# Altium integrated library National Semiconductor Analog.IntLib: 165 symbols (part 1 of 5)
Pins are listed as number, name and electrical type; pins without a type are passive.

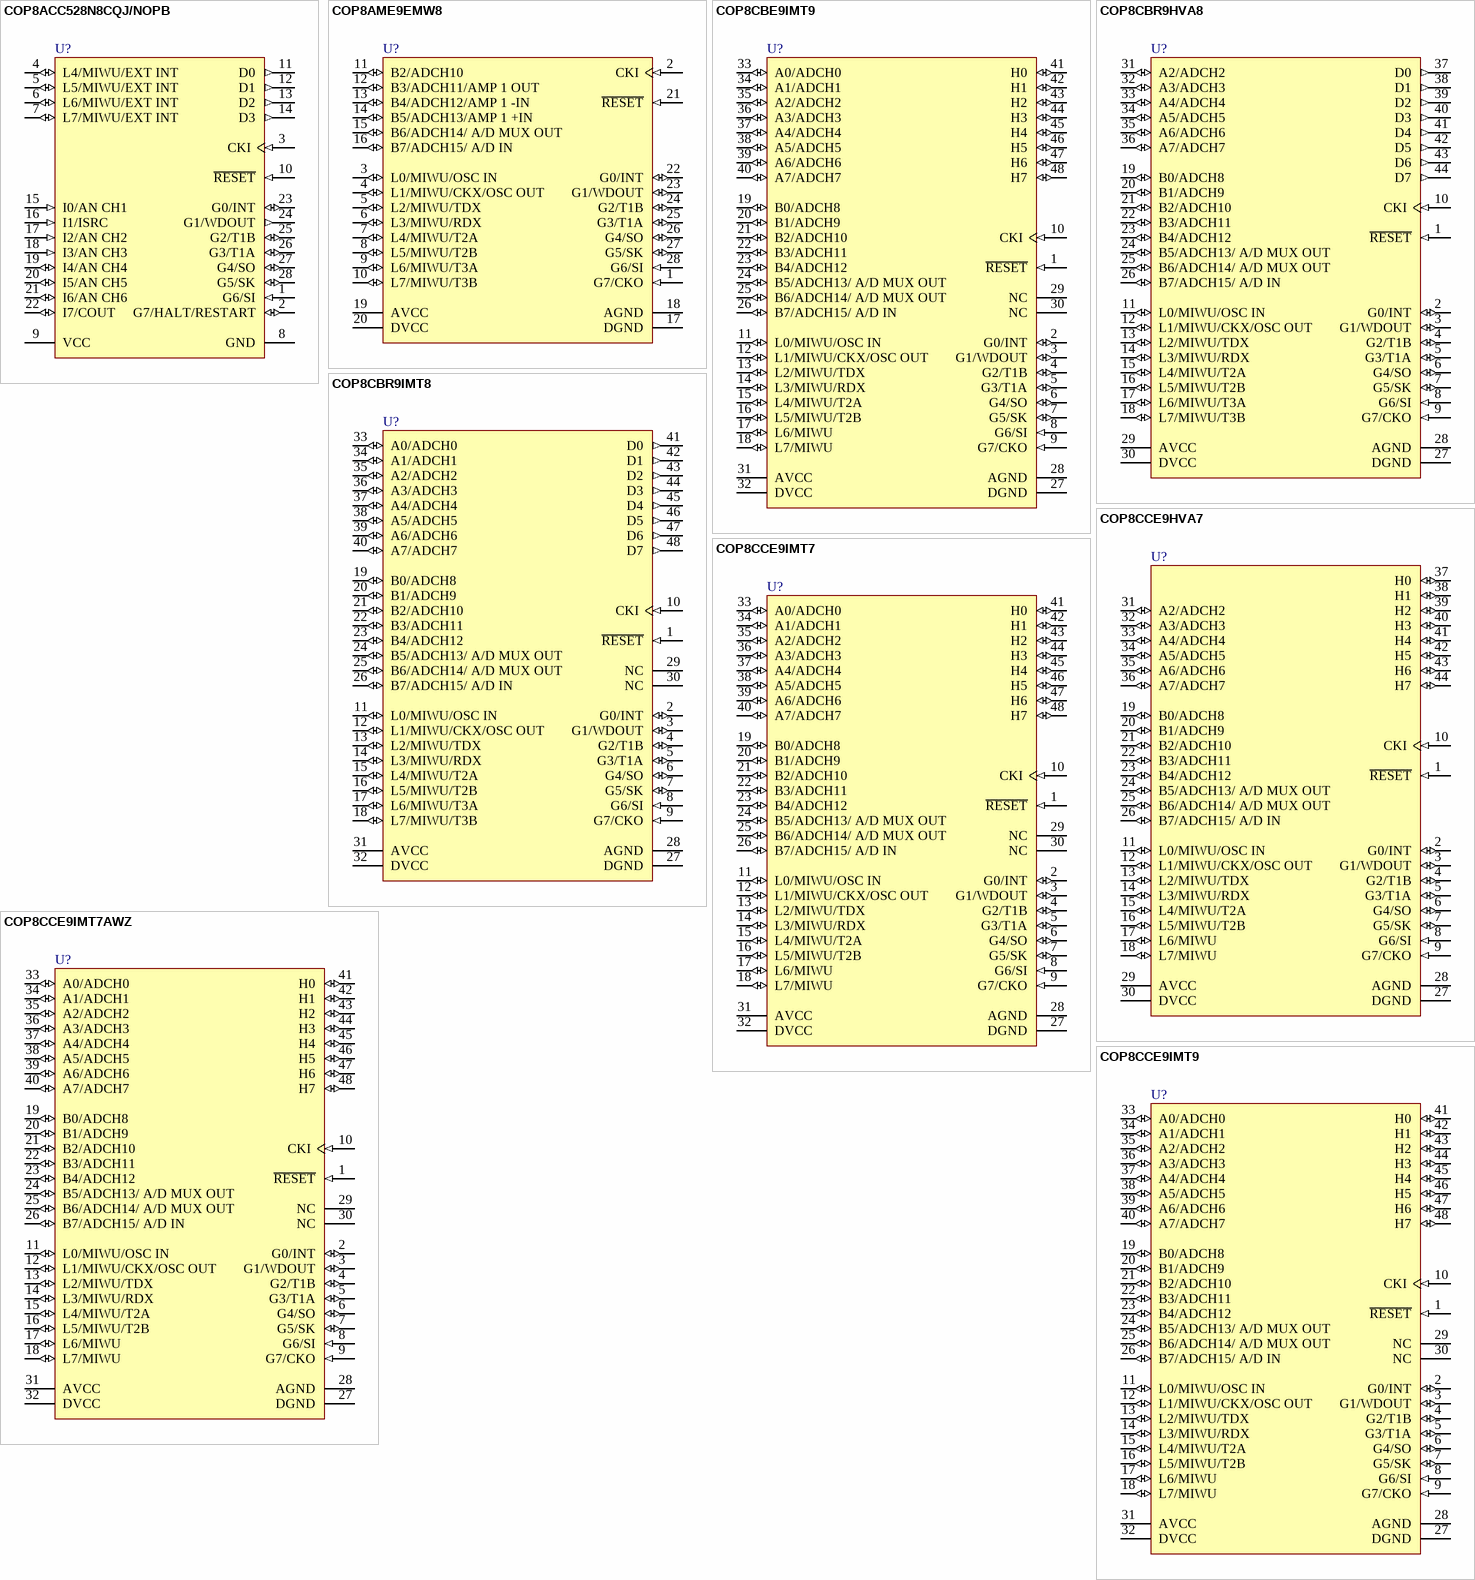
[diagram p0: symbols COP8ACC528N8CQJ/NOPB to COP8CCE9IMT9]

## COP8ACC528N8CQJ/NOPB
designator U?
8-Bit CMOS ROM Based Microcontrollers with 4k Memory and High Resolution A/D, 28 pin MDIP; PartNumber: COP8ACC528N8CQJ/NOPB; Manufacturer: National Semiconductor; PackageTopMarking: NSUZXYYTTE#*COP8ACC5*28N8CQJ; PowerWise: N; CompType: Analog IC; High-Reliability: Y; DatasheetVersion: Jul-2000; PackageVersion: revB, Aug-1993; PackageReference: NA28E; PackageDescription: Molded Dip, 28 Lead, .600 Centers, Substractor Package; RoHS: Y; PinCount: 28; ComponentLink1Description: Manufacturer URL; ComponentLink1URL: http://www.national.com/; ComponentLink2Description: COP8ACC5 Datasheet; ComponentLink2URL: http://www.national.com/ds/CO/COP8ACC5.pdf; ComponentLink3Description: COP8ACC5 Web Page; ComponentLink3URL: http://www.national.com/pf/CO/COP8ACC5.html; ComponentLink4Description: NA28E Package Page; ComponentLink4URL: http://www.national.com/packaging/folders/na28e.html
footprint NA28E (DIP, 28-Leads, Row Spacing 15.24mm, Pitch 2.54mm, Body 36.83x13.72mm)
pins: 1 G6/SI (in), 2 G7/HALT/RESTART (io), 3 CKI (in), 4 L4/MIWU/EXT INT (io), 5 L5/MIWU/EXT INT (io), 6 L6/MIWU/EXT INT (io), 7 L7/MIWU/EXT INT (io), 8 GND (power), 9 VCC (power), 10 ~{RESET} (in), 11 D0 (out), 12 D1 (out), 13 D2 (out), 14 D3 (out), 15 I0/AN CH1 (in), 16 I1/ISRC (in), 17 I2/AN CH2 (in), 18 I3/AN CH3 (in), 19 I4/AN CH4 (io), 20 I5/AN CH5 (io), 21 I6/AN CH6 (io), 22 I7/COUT (io), 23 G0/INT (io), 24 G1/WDOUT (out), 25 G2/T1B (io), 26 G3/T1A (io), 27 G4/SO (io), 28 G5/SK (io)

## COP8AME9EMW8
designator U?
8-Bit CMOS Flash Microcontroller with 8k Memory, Dual Op Amps, Virtual EEPROM, Temperature Sensor, 10-Bit A/D and 4.17 to 4.5V Brownout Reset, 28 pin SOIC WIDE; PartNumber: COP8AME9EMW8; Manufacturer: National Semiconductor; PackageTopMarking: NS2ZXYTTE#*COP8AME9EMW8; PowerWise: N; CompType: Analog IC; High-Reliability: Y; DatasheetVersion: Feb-2004; PackageVersion: revB, Nov-1997; PackageReference: M28B; PackageDescription: Molded Package, S.O., .300in Wide, 28 Lead; RoHS: N; PinCount: 28; ComponentLink1Description: Manufacturer URL; ComponentLink1URL: http://www.national.com/; ComponentLink2Description: COP8AME9 Datasheet; ComponentLink2URL: http://www.national.com/ds/CO/COP8AME9.pdf; ComponentLink3Description: COP8AME9 Web Page; ComponentLink3URL: http://www.national.com/pf/CO/COP8AME9.html; ComponentLink4Description: M28B Package Page; ComponentLink4URL: http://www.national.com/packaging/folders/m28b.html
footprint M28B_N (SOIC, 28-Leads, Body 17.9x7.5mm, Pitch 1.27mm, IPC Medium Density)
footprint M28B_L (SOIC, 28-Leads, Body 17.9x7.5mm, Pitch 1.27mm, IPC High Density)
footprint M28B_M (SOIC, 28-Leads, Body 17.9x7.5mm, Pitch 1.27mm, IPC Low Density)
pins: 1 G7/CKO (in), 2 CKI (in), 3 L0/MIWU/OSC IN (io), 4 L1/MIWU/CKX/OSC OUT (io), 5 L2/MIWU/TDX (io), 6 L3/MIWU/RDX (io), 7 L4/MIWU/T2A (io), 8 L5/MIWU/T2B (io), 9 L6/MIWU/T3A (io), 10 L7/MIWU/T3B (io), 11 B2/ADCH10 (io), 12 B3/ADCH11/AMP 1 OUT (io), 13 B4/ADCH12/AMP 1 -IN (io), 14 B5/ADCH13/AMP 1 +IN (io), 15 B6/ADCH14/ A/D MUX OUT (io), 16 B7/ADCH15/ A/D IN (io), 17 DGND (power), 18 AGND (power), 19 AVCC (power), 20 DVCC (power), 21 ~{RESET} (in), 22 G0/INT (io), 23 G1/WDOUT (io), 24 G2/T1B (io), 25 G3/T1A (io), 26 G4/SO (io), 27 G5/SK (io), 28 G6/SI (in)

## COP8CBE9IMT9
designator U?
8-Bit CMOS Flash Microcontroller with 8k Memory, Virtual EEPROM, 10-Bit A/D and Brownout Reset, 48-pin TSSOP; PartNumber: COP8CBE9IMT9; Manufacturer: National Semiconductor; PackageTopMarking: NS2ZXYTTE#*COP8CBE9IMT9; PowerWise: N; CompType: Analog IC; High-Reliability: Y; DatasheetVersion: Jun-2004; PackageVersion: revE, Apr-2003; PackageReference: MTD48; PackageDescription: Molded TSSOP, Jedec, 12.5 x 6.1 x 0.9mm Body, 48 Lead, 0.50mm Pitch; RoHS: N; PinCount: 48; Code_JEDEC: MO-153-ED; ComponentLink1Description: Manufacturer URL; ComponentLink1URL: http://www.national.com/; ComponentLink2Description: COP8CBE9 Datasheet; ComponentLink2URL: http://www.national.com/ds/CO/COP8CBE9.pdf; ComponentLink3Description: COP8CBE9 Web Page; ComponentLink3URL: http://www.national.com/pf/CO/COP8CBE9.html; ComponentLink4Description: MTD48 Package Page; ComponentLink4URL: http://www.national.com/packaging/folders/mtd48.html
footprint MTD48_N (TSSOP, 48-Leads, Body 12.5x6.1mm, Pitch 0.5mm, IPC Medium Density)
footprint MTD48_L (TSSOP, 48-Leads, Body 12.5x6.1mm, Pitch 0.5mm, IPC High Density)
footprint MTD48_M (TSSOP, 48-Leads, Body 12.5x6.1mm, Pitch 0.5mm, IPC Low Density)
pins: 1 ~{RESET} (in), 2 G0/INT (io), 3 G1/WDOUT (io), 4 G2/T1B (io), 5 G3/T1A (io), 6 G4/SO (io), 7 G5/SK (io), 8 G6/SI (in), 9 G7/CKO (in), 10 CKI (in), 11 L0/MIWU/OSC IN (io), 12 L1/MIWU/CKX/OSC OUT (io), 13 L2/MIWU/TDX (io), 14 L3/MIWU/RDX (io), 15 L4/MIWU/T2A (io), 16 L5/MIWU/T2B (io), 17 L6/MIWU (io), 18 L7/MIWU (io), 19 B0/ADCH8 (io), 20 B1/ADCH9 (io), 21 B2/ADCH10 (io), 22 B3/ADCH11 (io), 23 B4/ADCH12 (io), 24 B5/ADCH13/ A/D MUX OUT (io), 25 B6/ADCH14/ A/D MUX OUT (io), 26 B7/ADCH15/ A/D IN (io), 27 DGND (power), 28 AGND (power), 29 NC, 30 NC, 31 AVCC (power), 32 DVCC (power), 33 A0/ADCH0 (io), 34 A1/ADCH1 (io), 35 A2/ADCH2 (io), 36 A3/ADCH3 (io), 37 A4/ADCH4 (io), 38 A5/ADCH5 (io), 39 A6/ADCH6 (io), 40 A7/ADCH7 (io), 41 H0 (io), 42 H1 (io), 43 H2 (io), 44 H3 (io), 45 H4 (io), 46 H5 (io), 47 H6 (io), 48 H7 (io)

## COP8CBR9HVA8
designator U?
8-Bit CMOS Flash Microcontroller with 32k Memory, Virtual EEPROM, 10-Bit A/D and 2.7V to 2.9V Brownout, 44-pin PLCC; PartNumber: COP8CBR9HVA8; Manufacturer: National Semiconductor; PackageTopMarking: NS2ZXYYTTE#*COP8CBR9HVA8; PowerWise: N; CompType: Analog IC; High-Reliability: Y; DatasheetVersion: Aug-2003; PackageVersion: revK, Dec-1993; PackageReference: V44A; PackageDescription: Plastic Chip Carrier, Sq, .050in Pitch, 44 Lead; RoHS: N; PinCount: 44; Code_IPC: PLCC-44; ComponentLink1Description: Manufacturer URL; ComponentLink1URL: http://www.national.com/; ComponentLink2Description: COP8CBR9 Datasheet; ComponentLink2URL: http://www.national.com/ds/CO/COP8CBR9.pdf; ComponentLink3Description: COP8CBR9 Web Page; ComponentLink3URL: http://www.national.com/pf/CO/COP8CBR9.html; ComponentLink4Description: V44A Package Page; ComponentLink4URL: http://www.national.com/packaging/folders/v44a.html
footprint V44A_N (Leaded Chip Carrier, 44-Leads, Body 16.6x16.6mm, Pitch 1.27mm, IPC Medium Density)
footprint V44A_L (Leaded Chip Carrier, 44-Leads, Body 16.6x16.6mm, Pitch 1.27mm, IPC High Density)
footprint V44A_M (Leaded Chip Carrier, 44-Leads, Body 16.6x16.6mm, Pitch 1.27mm, IPC Low Density)
pins: 1 ~{RESET} (in), 2 G0/INT (io), 3 G1/WDOUT (io), 4 G2/T1B (io), 5 G3/T1A (io), 6 G4/SO (io), 7 G5/SK (io), 8 G6/SI (in), 9 G7/CKO (in), 10 CKI (in), 11 L0/MIWU/OSC IN (io), 12 L1/MIWU/CKX/OSC OUT (io), 13 L2/MIWU/TDX (io), 14 L3/MIWU/RDX (io), 15 L4/MIWU/T2A (io), 16 L5/MIWU/T2B (io), 17 L6/MIWU/T3A (io), 18 L7/MIWU/T3B (io), 19 B0/ADCH8 (io), 20 B1/ADCH9 (io), 21 B2/ADCH10 (io), 22 B3/ADCH11 (io), 23 B4/ADCH12 (io), 24 B5/ADCH13/ A/D MUX OUT (io), 25 B6/ADCH14/ A/D MUX OUT (io), 26 B7/ADCH15/ A/D IN (io), 27 DGND (power), 28 AGND (power), 29 AVCC (power), 30 DVCC (power), 31 A2/ADCH2 (io), 32 A3/ADCH3 (io), 33 A4/ADCH4 (io), 34 A5/ADCH5 (io), 35 A6/ADCH6 (io), 36 A7/ADCH7 (io), 37 D0 (out), 38 D1 (out), 39 D2 (out), 40 D3 (out), 41 D4 (out), 42 D5 (out), 43 D6 (out), 44 D7 (out)

## COP8CBR9IMT8
designator U?
8-Bit CMOS Flash Microcontroller with 32k Memory, Virtual EEPROM, 10-Bit A/D and Brownout, 48-pin TSSOP; PartNumber: COP8CBR9IMT8; Manufacturer: National Semiconductor; PackageTopMarking: NS2ZXYTTE#*COP8CBR9IMT8; PowerWise: N; CompType: Analog IC; High-Reliability: Y; DatasheetVersion: Aug-2003; PackageVersion: revE, Apr-2003; PackageReference: MTD48; PackageDescription: Molded TSSOP, Jedec, 12.5 x 6.1 x 0.9mm Body, 48 Lead, 0.50mm Pitch; RoHS: N; PinCount: 48; Code_JEDEC: MO-153-ED; ComponentLink1Description: Manufacturer URL; ComponentLink1URL: http://www.national.com/; ComponentLink2Description: COP8CBR9 Datasheet; ComponentLink2URL: http://www.national.com/ds/CO/COP8CBR9.pdf; ComponentLink3Description: COP8CBR9 Web Page; ComponentLink3URL: http://www.national.com/pf/CO/COP8CBR9.html; ComponentLink4Description: MTD48 Package Page; ComponentLink4URL: http://www.national.com/packaging/folders/mtd48.html
footprint MTD48_N (TSSOP, 48-Leads, Body 12.5x6.1mm, Pitch 0.5mm, IPC Medium Density)
footprint MTD48_L (TSSOP, 48-Leads, Body 12.5x6.1mm, Pitch 0.5mm, IPC High Density)
footprint MTD48_M (TSSOP, 48-Leads, Body 12.5x6.1mm, Pitch 0.5mm, IPC Low Density)
pins: 1 ~{RESET} (in), 2 G0/INT (io), 3 G1/WDOUT (io), 4 G2/T1B (io), 5 G3/T1A (io), 6 G4/SO (io), 7 G5/SK (io), 8 G6/SI (in), 9 G7/CKO (in), 10 CKI (in), 11 L0/MIWU/OSC IN (io), 12 L1/MIWU/CKX/OSC OUT (io), 13 L2/MIWU/TDX (io), 14 L3/MIWU/RDX (io), 15 L4/MIWU/T2A (io), 16 L5/MIWU/T2B (io), 17 L6/MIWU/T3A (io), 18 L7/MIWU/T3B (io), 19 B0/ADCH8 (io), 20 B1/ADCH9 (io), 21 B2/ADCH10 (io), 22 B3/ADCH11 (io), 23 B4/ADCH12 (io), 24 B5/ADCH13/ A/D MUX OUT (io), 25 B6/ADCH14/ A/D MUX OUT (io), 26 B7/ADCH15/ A/D IN (io), 27 DGND (power), 28 AGND (power), 29 NC, 30 NC, 31 AVCC (power), 32 DVCC (power), 33 A0/ADCH0 (io), 34 A1/ADCH1 (io), 35 A2/ADCH2 (io), 36 A3/ADCH3 (io), 37 A4/ADCH4 (io), 38 A5/ADCH5 (io), 39 A6/ADCH6 (io), 40 A7/ADCH7 (io), 41 D0 (out), 42 D1 (out), 43 D2 (out), 44 D3 (out), 45 D4 (out), 46 D5 (out), 47 D6 (out), 48 D7 (out)

## COP8CCE9HVA7
designator U?
8-Bit CMOS Flash Microcontroller with 8k Memory, Virtual EEPROM, 10-Bit A/D and 4.17V to 4.5V Brownout Reset, 44-pin PLCC; PartNumber: COP8CCE9HVA7; Manufacturer: National Semiconductor; PackageTopMarking: NS2ZXYYTTE#*COP8CCE9HVA7; PowerWise: N; CompType: Analog IC; High-Reliability: Y; DatasheetVersion: Jun-2004; PackageVersion: revK, Dec-1993; PackageReference: V44A; PackageDescription: Plastic Chip Carrier, Sq, .050in Pitch, 44 Lead; RoHS: N; PinCount: 44; Code_IPC: PLCC-44; ComponentLink1Description: Manufacturer URL; ComponentLink1URL: http://www.national.com/; ComponentLink2Description: COP8CCE9 Datasheet; ComponentLink2URL: http://www.national.com/ds/CO/COP8CCE9.pdf; ComponentLink3Description: COP8CCE9 Web Page; ComponentLink3URL: http://www.national.com/pf/CO/COP8CCE9.html; ComponentLink4Description: V44A Package Page; ComponentLink4URL: http://www.national.com/packaging/folders/v44a.html
footprint V44A_N (Leaded Chip Carrier, 44-Leads, Body 16.6x16.6mm, Pitch 1.27mm, IPC Medium Density)
footprint V44A_L (Leaded Chip Carrier, 44-Leads, Body 16.6x16.6mm, Pitch 1.27mm, IPC High Density)
footprint V44A_M (Leaded Chip Carrier, 44-Leads, Body 16.6x16.6mm, Pitch 1.27mm, IPC Low Density)
pins: 1 ~{RESET} (in), 2 G0/INT (io), 3 G1/WDOUT (io), 4 G2/T1B (io), 5 G3/T1A (io), 6 G4/SO (io), 7 G5/SK (io), 8 G6/SI (in), 9 G7/CKO (in), 10 CKI (in), 11 L0/MIWU/OSC IN (io), 12 L1/MIWU/CKX/OSC OUT (io), 13 L2/MIWU/TDX (io), 14 L3/MIWU/RDX (io), 15 L4/MIWU/T2A (io), 16 L5/MIWU/T2B (io), 17 L6/MIWU (io), 18 L7/MIWU (io), 19 B0/ADCH8 (io), 20 B1/ADCH9 (io), 21 B2/ADCH10 (io), 22 B3/ADCH11 (io), 23 B4/ADCH12 (io), 24 B5/ADCH13/ A/D MUX OUT (io), 25 B6/ADCH14/ A/D MUX OUT (io), 26 B7/ADCH15/ A/D IN (io), 27 DGND (power), 28 AGND (power), 29 AVCC (power), 30 DVCC (power), 31 A2/ADCH2 (io), 32 A3/ADCH3 (io), 33 A4/ADCH4 (io), 34 A5/ADCH5 (io), 35 A6/ADCH6 (io), 36 A7/ADCH7 (io), 37 H0 (io), 38 H1 (io), 39 H2 (io), 40 H3 (io), 41 H4 (io), 42 H5 (io), 43 H6 (io), 44 H7 (io)

## COP8CCE9IMT7
designator U?
8-Bit CMOS Flash Microcontroller with 8k Memory, Virtual EEPROM, 10-Bit A/D and Brownout Reset, 48-pin TSSOP; PartNumber: COP8CCE9IMT7; Manufacturer: National Semiconductor; PackageTopMarking: NS2ZXYTTE#*COP8CCE9IMT7; PowerWise: N; CompType: Analog IC; High-Reliability: Y; DatasheetVersion: Jun-2004; PackageVersion: revE, Apr-2003; PackageReference: MTD48; PackageDescription: Molded TSSOP, Jedec, 12.5 x 6.1 x 0.9mm Body, 48 Lead, 0.50mm Pitch; RoHS: N; PinCount: 48; Code_JEDEC: MO-153-ED; ComponentLink1Description: Manufacturer URL; ComponentLink1URL: http://www.national.com/; ComponentLink2Description: COP8CCE9 Datasheet; ComponentLink2URL: http://www.national.com/ds/CO/COP8CCE9.pdf; ComponentLink3Description: COP8CCE9 Web Page; ComponentLink3URL: http://www.national.com/pf/CO/COP8CCE9.html; ComponentLink4Description: MTD48 Package Page; ComponentLink4URL: http://www.national.com/packaging/folders/mtd48.html
footprint MTD48_N (TSSOP, 48-Leads, Body 12.5x6.1mm, Pitch 0.5mm, IPC Medium Density)
footprint MTD48_L (TSSOP, 48-Leads, Body 12.5x6.1mm, Pitch 0.5mm, IPC High Density)
footprint MTD48_M (TSSOP, 48-Leads, Body 12.5x6.1mm, Pitch 0.5mm, IPC Low Density)
pins: 1 ~{RESET} (in), 2 G0/INT (io), 3 G1/WDOUT (io), 4 G2/T1B (io), 5 G3/T1A (io), 6 G4/SO (io), 7 G5/SK (io), 8 G6/SI (in), 9 G7/CKO (in), 10 CKI (in), 11 L0/MIWU/OSC IN (io), 12 L1/MIWU/CKX/OSC OUT (io), 13 L2/MIWU/TDX (io), 14 L3/MIWU/RDX (io), 15 L4/MIWU/T2A (io), 16 L5/MIWU/T2B (io), 17 L6/MIWU (io), 18 L7/MIWU (io), 19 B0/ADCH8 (io), 20 B1/ADCH9 (io), 21 B2/ADCH10 (io), 22 B3/ADCH11 (io), 23 B4/ADCH12 (io), 24 B5/ADCH13/ A/D MUX OUT (io), 25 B6/ADCH14/ A/D MUX OUT (io), 26 B7/ADCH15/ A/D IN (io), 27 DGND (power), 28 AGND (power), 29 NC, 30 NC, 31 AVCC (power), 32 DVCC (power), 33 A0/ADCH0 (io), 34 A1/ADCH1 (io), 35 A2/ADCH2 (io), 36 A3/ADCH3 (io), 37 A4/ADCH4 (io), 38 A5/ADCH5 (io), 39 A6/ADCH6 (io), 40 A7/ADCH7 (io), 41 H0 (io), 42 H1 (io), 43 H2 (io), 44 H3 (io), 45 H4 (io), 46 H5 (io), 47 H6 (io), 48 H7 (io)

## COP8CCE9IMT7AWZ
designator U?
8-Bit CMOS Flash Microcontroller with 8k Memory, Virtual EEPROM, 10-Bit A/D and 4.17V to 4.5V Brownout Reset, 48 pin TSSOP; PartNumber: COP8CCE9IMT7AWZ; Manufacturer: National Semiconductor; PackageTopMarking: NSUZXYTT*COP8CCE9IMT7*AWZ; PowerWise: N; CompType: Analog IC; High-Reliability: Y; DatasheetVersion: Jun-2004; PackageVersion: revE, Apr-2003; PackageReference: MTD48; PackageDescription: Molded TSSOP, Jedec, 12.5 x 6.1 x 0.9mm Body, 48 Lead, 0.50mm Pitch; RoHS: N; PinCount: 48; Code_JEDEC: MO-153-ED; ComponentLink1Description: Manufacturer URL; ComponentLink1URL: http://www.national.com/; ComponentLink2Description: COP8CCE9 Datasheet; ComponentLink2URL: http://www.national.com/ds/CO/COP8CCE9.pdf; ComponentLink3Description: COP8CCE9 Web Page; ComponentLink3URL: http://www.national.com/pf/CO/COP8CCE9.html; ComponentLink4Description: MTD48 Package Page; ComponentLink4URL: http://www.national.com/packaging/folders/mtd48.html
footprint MTD48_N (TSSOP, 48-Leads, Body 12.5x6.1mm, Pitch 0.5mm, IPC Medium Density)
footprint MTD48_L (TSSOP, 48-Leads, Body 12.5x6.1mm, Pitch 0.5mm, IPC High Density)
footprint MTD48_M (TSSOP, 48-Leads, Body 12.5x6.1mm, Pitch 0.5mm, IPC Low Density)
pins: 1 ~{RESET} (in), 2 G0/INT (io), 3 G1/WDOUT (io), 4 G2/T1B (io), 5 G3/T1A (io), 6 G4/SO (io), 7 G5/SK (io), 8 G6/SI (in), 9 G7/CKO (in), 10 CKI (in), 11 L0/MIWU/OSC IN (io), 12 L1/MIWU/CKX/OSC OUT (io), 13 L2/MIWU/TDX (io), 14 L3/MIWU/RDX (io), 15 L4/MIWU/T2A (io), 16 L5/MIWU/T2B (io), 17 L6/MIWU (io), 18 L7/MIWU (io), 19 B0/ADCH8 (io), 20 B1/ADCH9 (io), 21 B2/ADCH10 (io), 22 B3/ADCH11 (io), 23 B4/ADCH12 (io), 24 B5/ADCH13/ A/D MUX OUT (io), 25 B6/ADCH14/ A/D MUX OUT (io), 26 B7/ADCH15/ A/D IN (io), 27 DGND (power), 28 AGND (power), 29 NC, 30 NC, 31 AVCC (power), 32 DVCC (power), 33 A0/ADCH0 (io), 34 A1/ADCH1 (io), 35 A2/ADCH2 (io), 36 A3/ADCH3 (io), 37 A4/ADCH4 (io), 38 A5/ADCH5 (io), 39 A6/ADCH6 (io), 40 A7/ADCH7 (io), 41 H0 (io), 42 H1 (io), 43 H2 (io), 44 H3 (io), 45 H4 (io), 46 H5 (io), 47 H6 (io), 48 H7 (io)

## COP8CCE9IMT9
designator U?
8-Bit CMOS Flash Microcontroller with 8k Memory, Virtual EEPROM, 10-Bit A/D and 4.17V to 4.5V Brownout Reset, 48-pin TSSOP; PartNumber: COP8CCE9IMT9; Manufacturer: National Semiconductor; PackageTopMarking: NS2ZXYTTE#*COP8CCE9IMT9; PowerWise: N; CompType: Analog IC; High-Reliability: Y; DatasheetVersion: Jun-2004; PackageVersion: revE, Apr-2003; PackageReference: MTD48; PackageDescription: Molded TSSOP, Jedec, 12.5 x 6.1 x 0.9mm Body, 48 Lead, 0.50mm Pitch; RoHS: N; PinCount: 48; Code_JEDEC: MO-153-ED; ComponentLink1Description: Manufacturer URL; ComponentLink1URL: http://www.national.com/; ComponentLink2Description: COP8CCE9 Datasheet; ComponentLink2URL: http://www.national.com/ds/CO/COP8CCE9.pdf; ComponentLink3Description: COP8CCE9 Web Page; ComponentLink3URL: http://www.national.com/pf/CO/COP8CCE9.html; ComponentLink4Description: MTD48 Package Page; ComponentLink4URL: http://www.national.com/packaging/folders/mtd48.html
footprint MTD48_N (TSSOP, 48-Leads, Body 12.5x6.1mm, Pitch 0.5mm, IPC Medium Density)
footprint MTD48_L (TSSOP, 48-Leads, Body 12.5x6.1mm, Pitch 0.5mm, IPC High Density)
footprint MTD48_M (TSSOP, 48-Leads, Body 12.5x6.1mm, Pitch 0.5mm, IPC Low Density)
pins: 1 ~{RESET} (in), 2 G0/INT (io), 3 G1/WDOUT (io), 4 G2/T1B (io), 5 G3/T1A (io), 6 G4/SO (io), 7 G5/SK (io), 8 G6/SI (in), 9 G7/CKO (in), 10 CKI (in), 11 L0/MIWU/OSC IN (io), 12 L1/MIWU/CKX/OSC OUT (io), 13 L2/MIWU/TDX (io), 14 L3/MIWU/RDX (io), 15 L4/MIWU/T2A (io), 16 L5/MIWU/T2B (io), 17 L6/MIWU (io), 18 L7/MIWU (io), 19 B0/ADCH8 (io), 20 B1/ADCH9 (io), 21 B2/ADCH10 (io), 22 B3/ADCH11 (io), 23 B4/ADCH12 (io), 24 B5/ADCH13/ A/D MUX OUT (io), 25 B6/ADCH14/ A/D MUX OUT (io), 26 B7/ADCH15/ A/D IN (io), 27 DGND (power), 28 AGND (power), 29 NC, 30 NC, 31 AVCC (power), 32 DVCC (power), 33 A0/ADCH0 (io), 34 A1/ADCH1 (io), 35 A2/ADCH2 (io), 36 A3/ADCH3 (io), 37 A4/ADCH4 (io), 38 A5/ADCH5 (io), 39 A6/ADCH6 (io), 40 A7/ADCH7 (io), 41 H0 (io), 42 H1 (io), 43 H2 (io), 44 H3 (io), 45 H4 (io), 46 H5 (io), 47 H6 (io), 48 H7 (io)

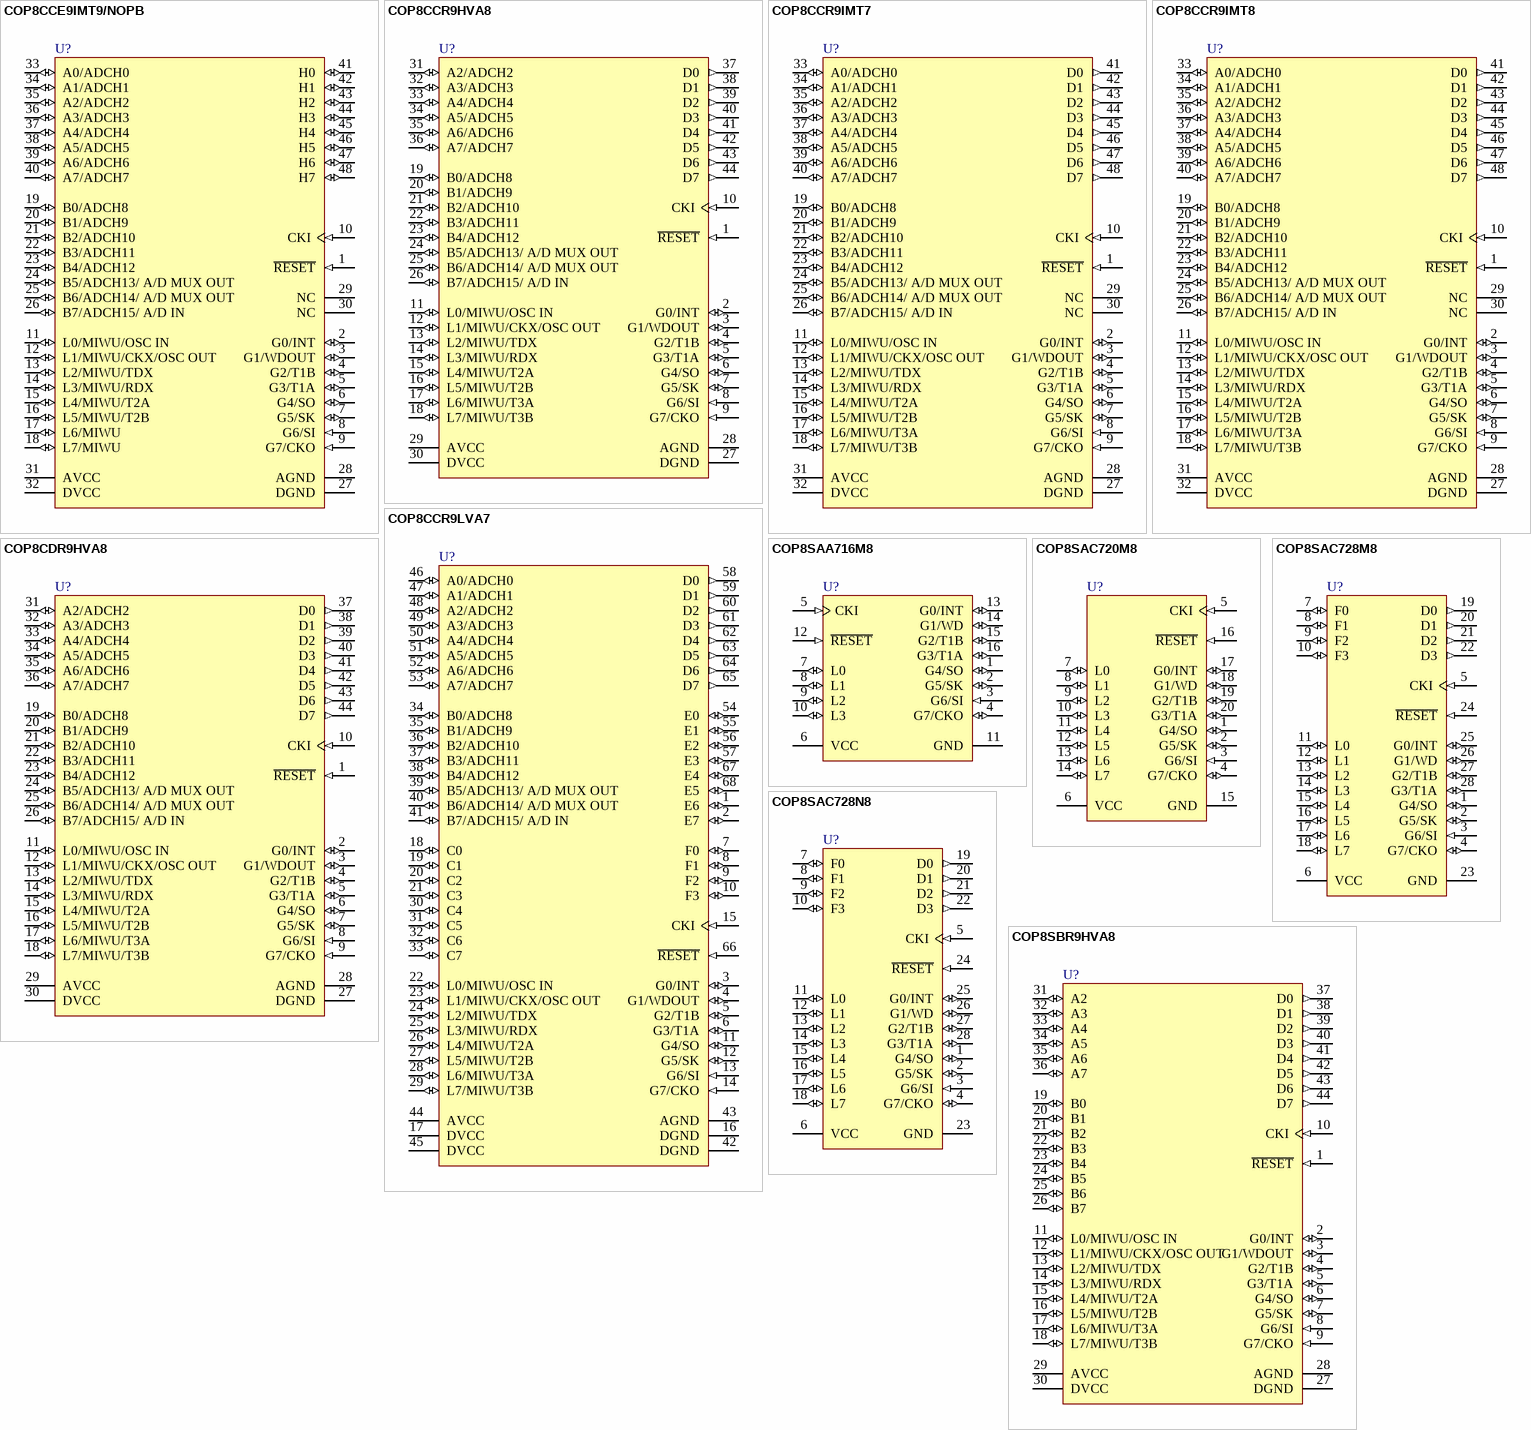
[diagram p1: symbols COP8CCE9IMT9/NOPB to COP8SBR9HVA8]

## COP8CCE9IMT9/NOPB
designator U?
8-Bit CMOS Flash Microcontroller with 8k Memory, Virtual EEPROM, 10-Bit A/D and 4.17V to 4.5V Brownout Reset, 48-pin TSSOP, Pb-Free; PartNumber: COP8CCE9IMT9/NOPB; Manufacturer: National Semiconductor; PackageTopMarking: NS2ZXYTTE#*COP8CCE9IMT9; PowerWise: N; CompType: Analog IC; High-Reliability: Y; DatasheetVersion: Jun-2004; PackageVersion: revE, Apr-2003; PackageReference: MTD48; PackageDescription: Molded TSSOP, Jedec, 12.5 x 6.1 x 0.9mm Body, 48 Lead, 0.50mm Pitch; RoHS: Y; PinCount: 48; Code_JEDEC: MO-153-ED; ComponentLink1Description: Manufacturer URL; ComponentLink1URL: http://www.national.com/; ComponentLink2Description: COP8CCE9 Datasheet; ComponentLink2URL: http://www.national.com/ds/CO/COP8CCE9.pdf; ComponentLink3Description: COP8CCE9 Web Page; ComponentLink3URL: http://www.national.com/pf/CO/COP8CCE9.html; ComponentLink4Description: MTD48 Package Page; ComponentLink4URL: http://www.national.com/packaging/folders/mtd48.html
footprint MTD48_N (TSSOP, 48-Leads, Body 12.5x6.1mm, Pitch 0.5mm, IPC Medium Density)
footprint MTD48_L (TSSOP, 48-Leads, Body 12.5x6.1mm, Pitch 0.5mm, IPC High Density)
footprint MTD48_M (TSSOP, 48-Leads, Body 12.5x6.1mm, Pitch 0.5mm, IPC Low Density)
pins: 1 ~{RESET} (in), 2 G0/INT (io), 3 G1/WDOUT (io), 4 G2/T1B (io), 5 G3/T1A (io), 6 G4/SO (io), 7 G5/SK (io), 8 G6/SI (in), 9 G7/CKO (in), 10 CKI (in), 11 L0/MIWU/OSC IN (io), 12 L1/MIWU/CKX/OSC OUT (io), 13 L2/MIWU/TDX (io), 14 L3/MIWU/RDX (io), 15 L4/MIWU/T2A (io), 16 L5/MIWU/T2B (io), 17 L6/MIWU (io), 18 L7/MIWU (io), 19 B0/ADCH8 (io), 20 B1/ADCH9 (io), 21 B2/ADCH10 (io), 22 B3/ADCH11 (io), 23 B4/ADCH12 (io), 24 B5/ADCH13/ A/D MUX OUT (io), 25 B6/ADCH14/ A/D MUX OUT (io), 26 B7/ADCH15/ A/D IN (io), 27 DGND (power), 28 AGND (power), 29 NC, 30 NC, 31 AVCC (power), 32 DVCC (power), 33 A0/ADCH0 (io), 34 A1/ADCH1 (io), 35 A2/ADCH2 (io), 36 A3/ADCH3 (io), 37 A4/ADCH4 (io), 38 A5/ADCH5 (io), 39 A6/ADCH6 (io), 40 A7/ADCH7 (io), 41 H0 (io), 42 H1 (io), 43 H2 (io), 44 H3 (io), 45 H4 (io), 46 H5 (io), 47 H6 (io), 48 H7 (io)

## COP8CCR9HVA8
designator U?
8-Bit CMOS Flash Microcontroller with 32k Memory, Virtual EEPROM, 10-Bit A/D and Brownout, 44-pin PLCC; PartNumber: COP8CCR9HVA8; Manufacturer: National Semiconductor; PackageTopMarking: NS2ZXYYTTE#*COP8CCR9HVA8; PowerWise: N; CompType: Analog IC; High-Reliability: Y; DatasheetVersion: Aug-2003; PackageVersion: revK, Dec-1993; PackageReference: V44A; PackageDescription: Plastic Chip Carrier, Sq, .050in Pitch, 44 Lead; RoHS: N; PinCount: 44; Code_IPC: PLCC-44; ComponentLink1Description: Manufacturer URL; ComponentLink1URL: http://www.national.com/; ComponentLink2Description: COP8CCR9 Datasheet; ComponentLink2URL: http://www.national.com/ds/CO/COP8CCR9.pdf; ComponentLink3Description: COP8CCR9 Web Page; ComponentLink3URL: http://www.national.com/pf/CO/COP8CCR9.html; ComponentLink4Description: V44A Package Page; ComponentLink4URL: http://www.national.com/packaging/folders/v44a.html
footprint V44A_N (Leaded Chip Carrier, 44-Leads, Body 16.6x16.6mm, Pitch 1.27mm, IPC Medium Density)
footprint V44A_L (Leaded Chip Carrier, 44-Leads, Body 16.6x16.6mm, Pitch 1.27mm, IPC High Density)
footprint V44A_M (Leaded Chip Carrier, 44-Leads, Body 16.6x16.6mm, Pitch 1.27mm, IPC Low Density)
pins: 1 ~{RESET} (in), 2 G0/INT (io), 3 G1/WDOUT (io), 4 G2/T1B (io), 5 G3/T1A (io), 6 G4/SO (io), 7 G5/SK (io), 8 G6/SI (in), 9 G7/CKO (in), 10 CKI (in), 11 L0/MIWU/OSC IN (io), 12 L1/MIWU/CKX/OSC OUT (io), 13 L2/MIWU/TDX (io), 14 L3/MIWU/RDX (io), 15 L4/MIWU/T2A (io), 16 L5/MIWU/T2B (io), 17 L6/MIWU/T3A (io), 18 L7/MIWU/T3B (io), 19 B0/ADCH8 (io), 20 B1/ADCH9 (io), 21 B2/ADCH10 (io), 22 B3/ADCH11 (io), 23 B4/ADCH12 (io), 24 B5/ADCH13/ A/D MUX OUT (io), 25 B6/ADCH14/ A/D MUX OUT (io), 26 B7/ADCH15/ A/D IN (io), 27 DGND (power), 28 AGND (power), 29 AVCC (power), 30 DVCC (power), 31 A2/ADCH2 (io), 32 A3/ADCH3 (io), 33 A4/ADCH4 (io), 34 A5/ADCH5 (io), 35 A6/ADCH6 (io), 36 A7/ADCH7 (io), 37 D0 (out), 38 D1 (out), 39 D2 (out), 40 D3 (out), 41 D4 (out), 42 D5 (out), 43 D6 (out), 44 D7 (out)

## COP8CCR9IMT7
designator U?
8-Bit CMOS Flash Microcontroller with 32k Memory, Virtual EEPROM, 10-Bit A/D and 4.17V to 4.5V Brownout, 48 pin TSSOP; PartNumber: COP8CCR9IMT7; Manufacturer: National Semiconductor; PackageTopMarking: NS2ZXYTTE#*COP8CCR9IMT7; PowerWise: N; CompType: Analog IC; High-Reliability: Y; DatasheetVersion: Aug-2003; PackageVersion: revE, Apr-2003; PackageReference: MTD48; PackageDescription: Molded TSSOP, Jedec, 12.5 x 6.1 x 0.9mm Body, 48 Lead, 0.50mm Pitch; RoHS: N; PinCount: 48; Code_JEDEC: MO-153-ED; ComponentLink1Description: Manufacturer URL; ComponentLink1URL: http://www.national.com/; ComponentLink2Description: COP8CCR9 Datasheet; ComponentLink2URL: http://www.national.com/ds/CO/COP8CCR9.pdf; ComponentLink3Description: COP8CCR9 Web Page; ComponentLink3URL: http://www.national.com/pf/CO/COP8CCR9.html; ComponentLink4Description: MTD48 Package Page; ComponentLink4URL: http://www.national.com/packaging/folders/mtd48.html
footprint MTD48_N (TSSOP, 48-Leads, Body 12.5x6.1mm, Pitch 0.5mm, IPC Medium Density)
footprint MTD48_L (TSSOP, 48-Leads, Body 12.5x6.1mm, Pitch 0.5mm, IPC High Density)
footprint MTD48_M (TSSOP, 48-Leads, Body 12.5x6.1mm, Pitch 0.5mm, IPC Low Density)
pins: 1 ~{RESET} (in), 2 G0/INT (io), 3 G1/WDOUT (io), 4 G2/T1B (io), 5 G3/T1A (io), 6 G4/SO (io), 7 G5/SK (io), 8 G6/SI (in), 9 G7/CKO (in), 10 CKI (in), 11 L0/MIWU/OSC IN (io), 12 L1/MIWU/CKX/OSC OUT (io), 13 L2/MIWU/TDX (io), 14 L3/MIWU/RDX (io), 15 L4/MIWU/T2A (io), 16 L5/MIWU/T2B (io), 17 L6/MIWU/T3A (io), 18 L7/MIWU/T3B (io), 19 B0/ADCH8 (io), 20 B1/ADCH9 (io), 21 B2/ADCH10 (io), 22 B3/ADCH11 (io), 23 B4/ADCH12 (io), 24 B5/ADCH13/ A/D MUX OUT (io), 25 B6/ADCH14/ A/D MUX OUT (io), 26 B7/ADCH15/ A/D IN (io), 27 DGND (power), 28 AGND (power), 29 NC, 30 NC, 31 AVCC (power), 32 DVCC (power), 33 A0/ADCH0 (io), 34 A1/ADCH1 (io), 35 A2/ADCH2 (io), 36 A3/ADCH3 (io), 37 A4/ADCH4 (io), 38 A5/ADCH5 (io), 39 A6/ADCH6 (io), 40 A7/ADCH7 (io), 41 D0 (out), 42 D1 (out), 43 D2 (out), 44 D3 (out), 45 D4 (out), 46 D5 (out), 47 D6 (out), 48 D7 (out)

## COP8CCR9IMT8
designator U?
8-Bit CMOS Flash Microcontroller with 32k Memory, Virtual EEPROM, 10-Bit A/D and Brownout, 48-pin TSSOP; PartNumber: COP8CCR9IMT8; Manufacturer: National Semiconductor; PackageTopMarking: NS2ZXYTTE#*COP8CCR9IMT8; PowerWise: N; CompType: Analog IC; High-Reliability: Y; DatasheetVersion: Aug-2003; PackageVersion: revE, Apr-2003; PackageReference: MTD48; PackageDescription: Molded TSSOP, Jedec, 12.5 x 6.1 x 0.9mm Body, 48 Lead, 0.50mm Pitch; RoHS: N; PinCount: 48; Code_JEDEC: MO-153-ED; ComponentLink1Description: Manufacturer URL; ComponentLink1URL: http://www.national.com/; ComponentLink2Description: COP8CCR9 Datasheet; ComponentLink2URL: http://www.national.com/ds/CO/COP8CCR9.pdf; ComponentLink3Description: COP8CCR9 Web Page; ComponentLink3URL: http://www.national.com/pf/CO/COP8CCR9.html; ComponentLink4Description: MTD48 Package Page; ComponentLink4URL: http://www.national.com/packaging/folders/mtd48.html
footprint MTD48_N (TSSOP, 48-Leads, Body 12.5x6.1mm, Pitch 0.5mm, IPC Medium Density)
footprint MTD48_L (TSSOP, 48-Leads, Body 12.5x6.1mm, Pitch 0.5mm, IPC High Density)
footprint MTD48_M (TSSOP, 48-Leads, Body 12.5x6.1mm, Pitch 0.5mm, IPC Low Density)
pins: 1 ~{RESET} (in), 2 G0/INT (io), 3 G1/WDOUT (io), 4 G2/T1B (io), 5 G3/T1A (io), 6 G4/SO (io), 7 G5/SK (io), 8 G6/SI (in), 9 G7/CKO (in), 10 CKI (in), 11 L0/MIWU/OSC IN (io), 12 L1/MIWU/CKX/OSC OUT (io), 13 L2/MIWU/TDX (io), 14 L3/MIWU/RDX (io), 15 L4/MIWU/T2A (io), 16 L5/MIWU/T2B (io), 17 L6/MIWU/T3A (io), 18 L7/MIWU/T3B (io), 19 B0/ADCH8 (io), 20 B1/ADCH9 (io), 21 B2/ADCH10 (io), 22 B3/ADCH11 (io), 23 B4/ADCH12 (io), 24 B5/ADCH13/ A/D MUX OUT (io), 25 B6/ADCH14/ A/D MUX OUT (io), 26 B7/ADCH15/ A/D IN (io), 27 DGND (power), 28 AGND (power), 29 NC, 30 NC, 31 AVCC (power), 32 DVCC (power), 33 A0/ADCH0 (io), 34 A1/ADCH1 (io), 35 A2/ADCH2 (io), 36 A3/ADCH3 (io), 37 A4/ADCH4 (io), 38 A5/ADCH5 (io), 39 A6/ADCH6 (io), 40 A7/ADCH7 (io), 41 D0 (out), 42 D1 (out), 43 D2 (out), 44 D3 (out), 45 D4 (out), 46 D5 (out), 47 D6 (out), 48 D7 (out)

## COP8CCR9LVA7
designator U?
8-Bit CMOS Flash Microcontroller with 32k Memory, Virtual EEPROM, 10-Bit A/D and Brownout, 68-pin PLCC; PartNumber: COP8CCR9LVA7; Manufacturer: National Semiconductor; PackageTopMarking: NS2ZXYYTTE#*COP8CCR9LVA7; PowerWise: N; CompType: Analog IC; High-Reliability: Y; DatasheetVersion: Aug-2003; PackageVersion: revK, May-2007; PackageReference: V68A; PackageDescription: Plastic Chip Carrier, J-Bend, .954 x. 954 x .172in, .050in Pitch, 68 Lead; RoHS: N; PinCount: 68; Code_JEDEC: MS-018-AE; Code_IPC: PLCC-68; ComponentLink1Description: Manufacturer URL; ComponentLink1URL: http://www.national.com/; ComponentLink2Description: COP8CCR9 Datasheet; ComponentLink2URL: http://www.national.com/ds/CO/COP8CCR9.pdf; ComponentLink3Description: COP8CCR9 Web Page; ComponentLink3URL: http://www.national.com/pf/CO/COP8CCR9.html; ComponentLink4Description: V68A Package Page; ComponentLink4URL: http://www.national.com/packaging/folders/v68a.html
footprint V68A_N (Leaded Chip Carrier, 68-Leads, Body 24x24mm, Pitch 1.27mm, IPC Medium Density)
footprint V68A_L (Leaded Chip Carrier, 68-Leads, Body 24x24mm, Pitch 1.27mm, IPC High Density)
footprint V68A_M (Leaded Chip Carrier, 68-Leads, Body 24x24mm, Pitch 1.27mm, IPC Low Density)
pins: 1 E6 (io), 2 E7 (io), 3 G0/INT (io), 4 G1/WDOUT (io), 5 G2/T1B (io), 6 G3/T1A (io), 7 F0 (io), 8 F1 (io), 9 F2 (io), 10 F3 (io), 11 G4/SO (io), 12 G5/SK (io), 13 G6/SI (in), 14 G7/CKO (in), 15 CKI (in), 16 DGND (power), 17 DVCC (power), 18 C0 (io), 19 C1 (io), 20 C2 (io), 21 C3 (io), 22 L0/MIWU/OSC IN (io), 23 L1/MIWU/CKX/OSC OUT (io), 24 L2/MIWU/TDX (io), 25 L3/MIWU/RDX (io), 26 L4/MIWU/T2A (io), 27 L5/MIWU/T2B (io), 28 L6/MIWU/T3A (io), 29 L7/MIWU/T3B (io), 30 C4 (io), 31 C5 (io), 32 C6 (io), 33 C7 (io), 34 B0/ADCH8 (io), 35 B1/ADCH9 (io), 36 B2/ADCH10 (io), 37 B3/ADCH11 (io), 38 B4/ADCH12 (io), 39 B5/ADCH13/ A/D MUX OUT (io), 40 B6/ADCH14/ A/D MUX OUT (io), 41 B7/ADCH15/ A/D IN (io), 42 DGND (power), 43 AGND (power), 44 AVCC (power), 45 DVCC (power), 46 A0/ADCH0 (io), 47 A1/ADCH1 (io), 48 A2/ADCH2 (io), 49 A3/ADCH3 (io), 50 A4/ADCH4 (io), 51 A5/ADCH5 (io), 52 A6/ADCH6 (io), 53 A7/ADCH7 (io), 54 E0 (io), 55 E1 (io), 56 E2 (io), 57 E3 (io), 58 D0 (out), 59 D1 (out), 60 D2 (out), 61 D3 (out), 62 D4 (out), 63 D5 (out), 64 D6 (out), 65 D7 (out), 66 ~{RESET} (in), 67 E4 (io), 68 E5 (io)

## COP8CDR9HVA8
designator U?
8-Bit CMOS Flash Microcontroller with 32k Memory, Virtual EEPROM, 10-Bit A/D and Brownout, 44-pin PLCC; PartNumber: COP8CDR9HVA8; Manufacturer: National Semiconductor; PackageTopMarking: NS2ZXYYTTE#*COP8CDR9HVA8; PowerWise: N; CompType: Analog IC; High-Reliability: Y; DatasheetVersion: Aug-2003; PackageVersion: revK, Dec-1993; PackageReference: V44A; PackageDescription: Plastic Chip Carrier, Sq, .050in Pitch, 44 Lead; RoHS: N; PinCount: 44; Code_IPC: PLCC-44; ComponentLink1Description: Manufacturer URL; ComponentLink1URL: http://www.national.com/; ComponentLink2Description: COP8CDR9 Datasheet; ComponentLink2URL: http://www.national.com/ds/CO/COP8CDR9.pdf; ComponentLink3Description: COP8CDR9 Web Page; ComponentLink3URL: http://www.national.com/pf/CO/COP8CDR9.html; ComponentLink4Description: V44A Package Page; ComponentLink4URL: http://www.national.com/packaging/folders/v44a.html
footprint V44A_N (Leaded Chip Carrier, 44-Leads, Body 16.6x16.6mm, Pitch 1.27mm, IPC Medium Density)
footprint V44A_L (Leaded Chip Carrier, 44-Leads, Body 16.6x16.6mm, Pitch 1.27mm, IPC High Density)
footprint V44A_M (Leaded Chip Carrier, 44-Leads, Body 16.6x16.6mm, Pitch 1.27mm, IPC Low Density)
pins: 1 ~{RESET} (in), 2 G0/INT (io), 3 G1/WDOUT (io), 4 G2/T1B (io), 5 G3/T1A (io), 6 G4/SO (io), 7 G5/SK (io), 8 G6/SI (in), 9 G7/CKO (in), 10 CKI (in), 11 L0/MIWU/OSC IN (io), 12 L1/MIWU/CKX/OSC OUT (io), 13 L2/MIWU/TDX (io), 14 L3/MIWU/RDX (io), 15 L4/MIWU/T2A (io), 16 L5/MIWU/T2B (io), 17 L6/MIWU/T3A (io), 18 L7/MIWU/T3B (io), 19 B0/ADCH8 (io), 20 B1/ADCH9 (io), 21 B2/ADCH10 (io), 22 B3/ADCH11 (io), 23 B4/ADCH12 (io), 24 B5/ADCH13/ A/D MUX OUT (io), 25 B6/ADCH14/ A/D MUX OUT (io), 26 B7/ADCH15/ A/D IN (io), 27 DGND (power), 28 AGND (power), 29 AVCC (power), 30 DVCC (power), 31 A2/ADCH2 (io), 32 A3/ADCH3 (io), 33 A4/ADCH4 (io), 34 A5/ADCH5 (io), 35 A6/ADCH6 (io), 36 A7/ADCH7 (io), 37 D0 (out), 38 D1 (out), 39 D2 (out), 40 D3 (out), 41 D4 (out), 42 D5 (out), 43 D6 (out), 44 D7 (out)

## COP8SAA716M8
designator U?
8-Bit CMOS ROM Based & One-Time Programmable (OTP) Microcontroller with 1 to 4k Memory, Power On Reset, 16-pin Wide SOIC; PartNumber: COP8SAA716M8; Manufacturer: National Semiconductor; PackageTopMarking: NSUZXYTTE#*COP8SAA7*16M8; PowerWise: N; CompType: Analog IC; High-Reliability: Y; DatasheetVersion: Nov-2000; PackageVersion: revF, Apr-1990; PackageReference: M16B; PackageDescription: Molded Package, S.O., .300in Wide, 16 Lead; RoHS: N; PinCount: 16; Code_JEDEC: MS-013-AA; Code_IPC: SOIC127P1030-16; ComponentLink1Description: Manufacturer URL; ComponentLink1URL: http://www.national.com/; ComponentLink2Description: COP8SAA7 Datasheet; ComponentLink2URL: http://www.national.com/ds/CO/COP8SAA7.pdf; ComponentLink3Description: COP8SAA7 Web Page; ComponentLink3URL: http://www.national.com/pf/CO/COP8SAA7.html; ComponentLink4Description: M16B Package Page; ComponentLink4URL: http://www.national.com/packaging/folders/m16b.html
footprint M16B_N (SOIC, 16-Leads, Body 10.3x7.5mm, Pitch 1.27mm, IPC Medium Density)
footprint M16B_L (SOIC, 16-Leads, Body 10.3x7.5mm, Pitch 1.27mm, IPC High Density)
footprint M16B_M (SOIC, 16-Leads, Body 10.3x7.5mm, Pitch 1.27mm, IPC Low Density)
pins: 1 G4/SO (io), 2 G5/SK (io), 3 G6/SI (in), 4 G7/CKO (io), 5 CKI (in), 6 VCC (power), 7 L0 (io), 8 L1 (io), 9 L2 (io), 10 L3 (io), 11 GND (power), 12 ~{RESET} (in), 13 G0/INT (io), 14 G1/WD (io), 15 G2/T1B (io), 16 G3/T1A (io)

## COP8SAC720M8
designator U?
8-Bit CMOS ROM Based & One-Time Programmable (OTP) Microcontroller with 1 to 4k Memory, Power On Reset, 20-pin Wide SOIC; PartNumber: COP8SAC720M8; Manufacturer: National Semiconductor; PackageTopMarking: NSUZXYTTE#*COP8SAC720M8; PowerWise: N; CompType: Analog IC; High-Reliability: Y; DatasheetVersion: Nov-2000; PackageVersion: revG, Jan-1996; PackageReference: M20B; PackageDescription: Molded Package, S0, .300in Wide, 20 Lead; RoHS: N; PinCount: 20; Code_JEDEC: MS-013-AC; Code_IPC: SOIC127P1030-20; ComponentLink1Description: Manufacturer URL; ComponentLink1URL: http://www.national.com/; ComponentLink2Description: COP8SAC7 Datasheet; ComponentLink2URL: http://www.national.com/ds/CO/COP8SAC7.pdf; ComponentLink3Description: COP8SAC7 Web Page; ComponentLink3URL: http://www.national.com/pf/CO/COP8SAC7.html; ComponentLink4Description: M20B Package Page; ComponentLink4URL: http://www.national.com/packaging/folders/m20b.html
footprint M20B_N (SOIC, 20-Leads, Body 12.8x7.5mm, Pitch 1.27mm, IPC Medium Density)
footprint M20B_L (SOIC, 20-Leads, Body 12.8x7.5mm, Pitch 1.27mm, IPC High Density)
footprint M20B_M (SOIC, 20-Leads, Body 12.8x7.5mm, Pitch 1.27mm, IPC Low Density)
pins: 1 G4/SO (io), 2 G5/SK (io), 3 G6/SI (in), 4 G7/CKO (io), 5 CKI (in), 6 VCC (power), 7 L0 (io), 8 L1 (io), 9 L2 (io), 10 L3 (io), 11 L4 (io), 12 L5 (io), 13 L6 (io), 14 L7 (io), 15 GND (power), 16 ~{RESET} (in), 17 G0/INT (io), 18 G1/WD (io), 19 G2/T1B (io), 20 G3/T1A (io)

## COP8SAC728M8
designator U?
8-Bit CMOS ROM Based & One-Time Programmable (OTP) Microcontroller with 1 to 4k Memory, Power On Reset, 28-pin Wide SOIC; PartNumber: COP8SAC728M8; Manufacturer: National Semiconductor; PackageTopMarking: NSUZXYTTE#*COP8SAC728M8; PowerWise: N; CompType: Analog IC; High-Reliability: Y; DatasheetVersion: Nov-2000; PackageVersion: revB, Nov-1997; PackageReference: M28B; PackageDescription: Molded Package, S.O., .300in Wide, 28 Lead; RoHS: N; PinCount: 28; ComponentLink1Description: Manufacturer URL; ComponentLink1URL: http://www.national.com/; ComponentLink2Description: COP8SAC7 Datasheet; ComponentLink2URL: http://www.national.com/ds/CO/COP8SAC7.pdf; ComponentLink3Description: COP8SAC7 Web Page; ComponentLink3URL: http://www.national.com/pf/CO/COP8SAC7.html; ComponentLink4Description: M28B Package Page; ComponentLink4URL: http://www.national.com/packaging/folders/m28b.html
footprint M28B_N (SOIC, 28-Leads, Body 17.9x7.5mm, Pitch 1.27mm, IPC Medium Density)
footprint M28B_L (SOIC, 28-Leads, Body 17.9x7.5mm, Pitch 1.27mm, IPC High Density)
footprint M28B_M (SOIC, 28-Leads, Body 17.9x7.5mm, Pitch 1.27mm, IPC Low Density)
pins: 1 G4/SO (io), 2 G5/SK (io), 3 G6/SI (in), 4 G7/CKO (io), 5 CKI (in), 6 VCC (power), 7 F0 (io), 8 F1 (io), 9 F2 (io), 10 F3 (io), 11 L0 (io), 12 L1 (io), 13 L2 (io), 14 L3 (io), 15 L4 (io), 16 L5 (io), 17 L6 (io), 18 L7 (io), 19 D0 (out), 20 D1 (out), 21 D2 (out), 22 D3 (out), 23 GND (power), 24 ~{RESET} (in), 25 G0/INT (io), 26 G1/WD (io), 27 G2/T1B (io), 28 G3/T1A (io)

## COP8SAC728N8
designator U?
8-Bit CMOS ROM Based & One-Time Programmable (OTP) Microcontroller with 1 to 4k Memory, Power On Reset, 28-pin MDIP; PartNumber: COP8SAC728N8; Manufacturer: National Semiconductor; PackageTopMarking: NSUZXYYTTE#*COP8SAC728N8; PowerWise: N; CompType: Analog IC; High-Reliability: Y; DatasheetVersion: Nov-2000; PackageVersion: revB, Aug-1993; PackageReference: NA28E; PackageDescription: Molded Dip, 28 Lead, .600 Centers, Substractor Package; RoHS: N; PinCount: 28; ComponentLink1Description: Manufacturer URL; ComponentLink1URL: http://www.national.com/; ComponentLink2Description: COP8SAC7 Datasheet; ComponentLink2URL: http://www.national.com/ds/CO/COP8SAC7.pdf; ComponentLink3Description: COP8SAC7 Web Page; ComponentLink3URL: http://www.national.com/pf/CO/COP8SAC7.html; ComponentLink4Description: NA28E Package Page; ComponentLink4URL: http://www.national.com/packaging/folders/na28e.html
footprint NA28E (DIP, 28-Leads, Row Spacing 15.24mm, Pitch 2.54mm, Body 36.83x13.72mm)
pins: 1 G4/SO (io), 2 G5/SK (io), 3 G6/SI (in), 4 G7/CKO (io), 5 CKI (in), 6 VCC (power), 7 F0 (io), 8 F1 (io), 9 F2 (io), 10 F3 (io), 11 L0 (io), 12 L1 (io), 13 L2 (io), 14 L3 (io), 15 L4 (io), 16 L5 (io), 17 L6 (io), 18 L7 (io), 19 D0 (out), 20 D1 (out), 21 D2 (out), 22 D3 (out), 23 GND (power), 24 ~{RESET} (in), 25 G0/INT (io), 26 G1/WD (io), 27 G2/T1B (io), 28 G3/T1A (io)

## COP8SBR9HVA8
designator U?
8-Bit CMOS Flash Based Microcontroller with 32k Memory, Virtual EEPROM and Brownout, 44-pin PLCC; PartNumber: COP8SBR9HVA8; Manufacturer: National Semiconductor; PackageTopMarking: NS2ZXYTTE#*COP8SBR9HVA8; PowerWise: N; CompType: Analog IC; High-Reliability: Y; DatasheetVersion: Aug-2003; PackageVersion: revK, Dec-1993; PackageReference: V44A; PackageDescription: Plastic Chip Carrier, Sq, .050in Pitch, 44 Lead; RoHS: N; PinCount: 44; Code_IPC: PLCC-44; ComponentLink1Description: Manufacturer URL; ComponentLink1URL: http://www.national.com/; ComponentLink2Description: COP8SBR9 Datasheet; ComponentLink2URL: http://www.national.com/ds/CO/COP8SBR9.pdf; ComponentLink3Description: COP8SBR9 Web Page; ComponentLink3URL: http://www.national.com/pf/CO/COP8SBR9.html; ComponentLink4Description: V44A Package Page; ComponentLink4URL: http://www.national.com/packaging/folders/v44a.html
footprint V44A_N (Leaded Chip Carrier, 44-Leads, Body 16.6x16.6mm, Pitch 1.27mm, IPC Medium Density)
footprint V44A_L (Leaded Chip Carrier, 44-Leads, Body 16.6x16.6mm, Pitch 1.27mm, IPC High Density)
footprint V44A_M (Leaded Chip Carrier, 44-Leads, Body 16.6x16.6mm, Pitch 1.27mm, IPC Low Density)
pins: 1 ~{RESET} (in), 2 G0/INT (io), 3 G1/WDOUT (io), 4 G2/T1B (io), 5 G3/T1A (io), 6 G4/SO (io), 7 G5/SK (io), 8 G6/SI (in), 9 G7/CKO (in), 10 CKI (in), 11 L0/MIWU/OSC IN (io), 12 L1/MIWU/CKX/OSC OUT (io), 13 L2/MIWU/TDX (io), 14 L3/MIWU/RDX (io), 15 L4/MIWU/T2A (io), 16 L5/MIWU/T2B (io), 17 L6/MIWU/T3A (io), 18 L7/MIWU/T3B (io), 19 B0 (io), 20 B1 (io), 21 B2 (io), 22 B3 (io), 23 B4 (io), 24 B5 (io), 25 B6 (io), 26 B7 (io), 27 DGND (power), 28 AGND (power), 29 AVCC (power), 30 DVCC (power), 31 A2 (io), 32 A3 (io), 33 A4 (io), 34 A5 (io), 35 A6 (io), 36 A7 (io), 37 D0 (out), 38 D1 (out), 39 D2 (out), 40 D3 (out), 41 D4 (out), 42 D5 (out), 43 D6 (out), 44 D7 (out)

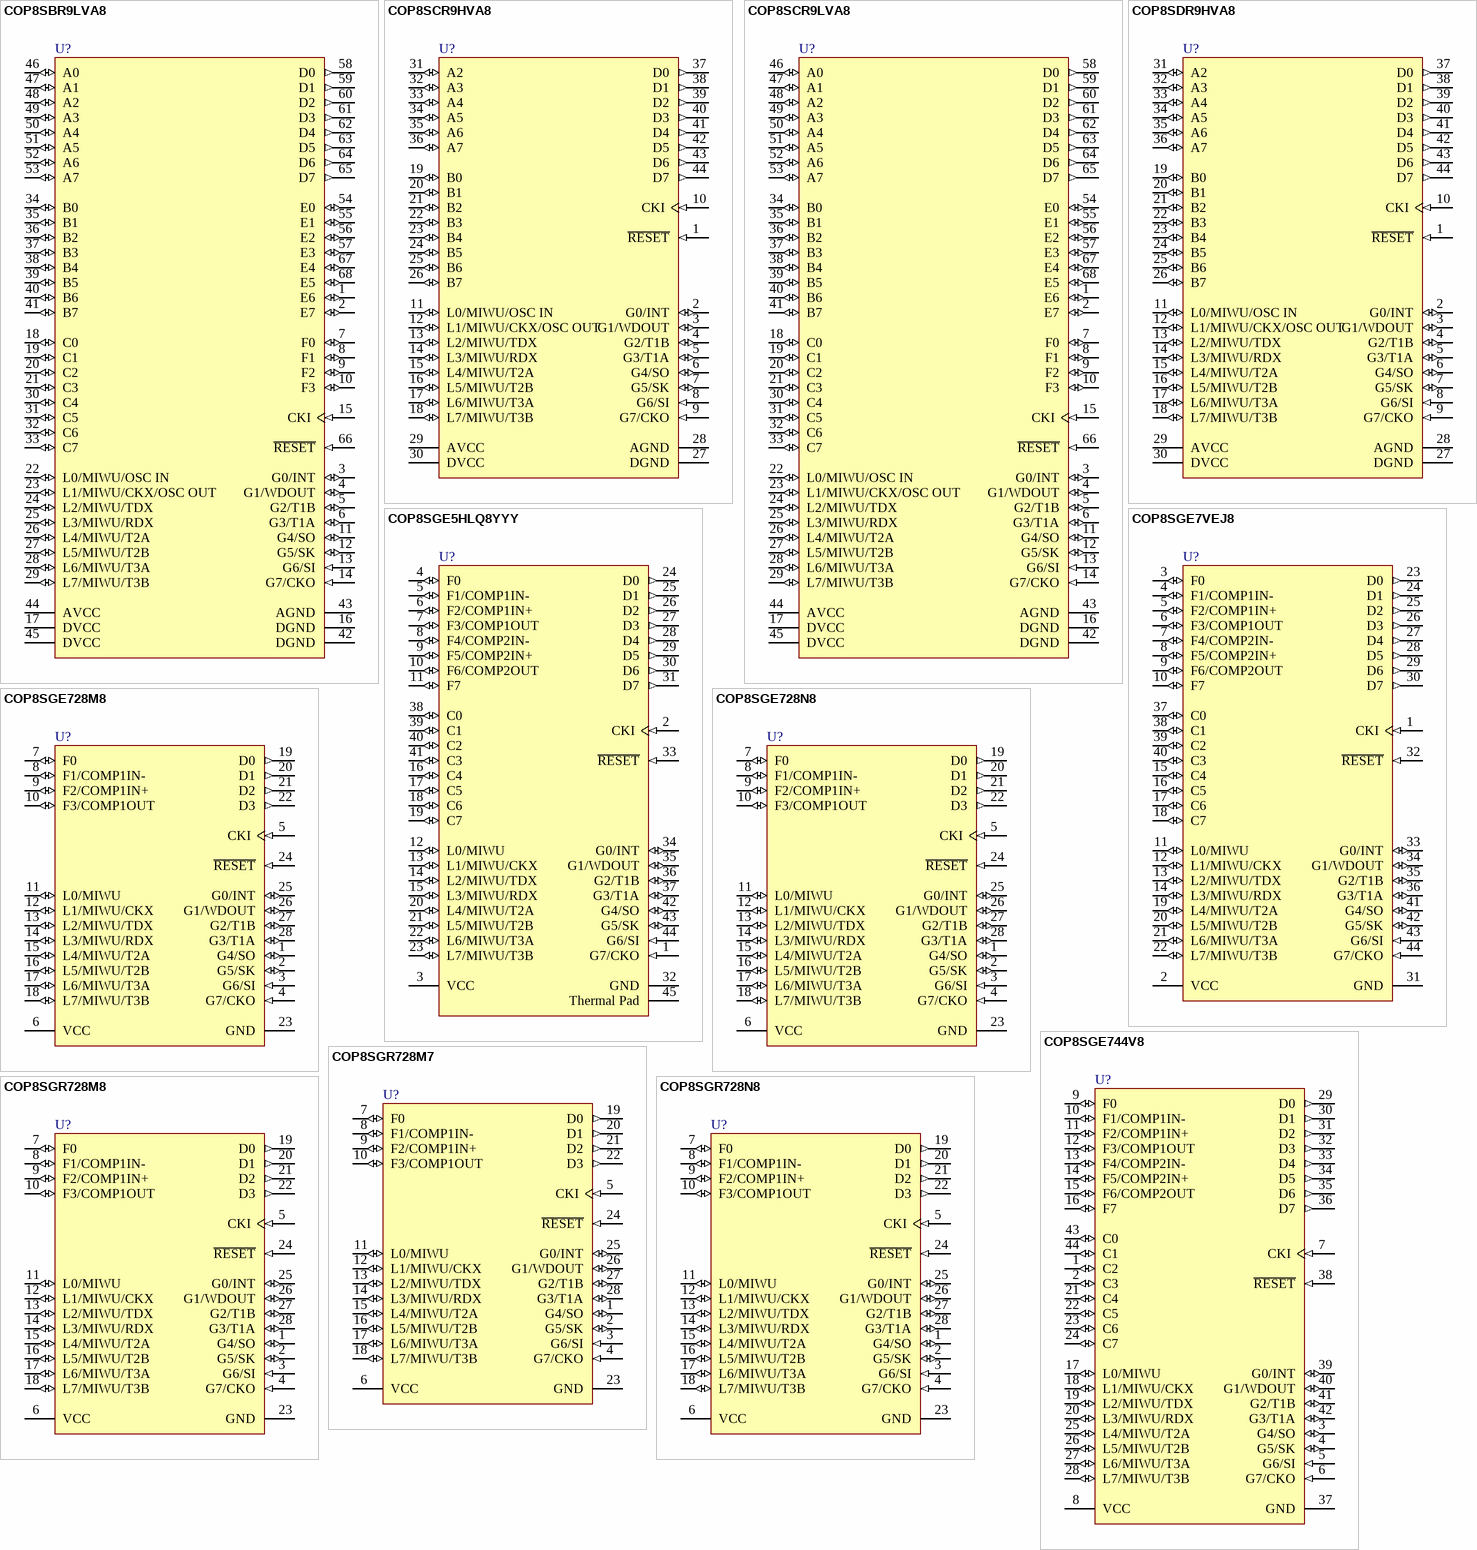
[diagram p2: symbols COP8SBR9LVA8 to COP8SGR728N8]

## COP8SBR9LVA8
designator U?
8-Bit CMOS Flash Based Microcontroller with 32k Memory, Virtual EEPROM and Brownout, 68-pin PLCC; PartNumber: COP8SBR9LVA8; Manufacturer: National Semiconductor; PackageTopMarking: NS2ZXYTTE#*COP8SBR9LVA8; PowerWise: N; CompType: Analog IC; High-Reliability: Y; DatasheetVersion: Aug-2003; PackageVersion: revK, May-2007; PackageReference: V68A; PackageDescription: Plastic Chip Carrier, J-Bend, .954 x. 954 x .172in, .050in Pitch, 68 Lead; RoHS: N; PinCount: 68; Code_JEDEC: MS-018-AE; Code_IPC: PLCC-68; ComponentLink1Description: Manufacturer URL; ComponentLink1URL: http://www.national.com/; ComponentLink2Description: COP8SBR9 Datasheet; ComponentLink2URL: http://www.national.com/ds/CO/COP8SBR9.pdf; ComponentLink3Description: COP8SBR9 Web Page; ComponentLink3URL: http://www.national.com/pf/CO/COP8SBR9.html; ComponentLink4Description: V68A Package Page; ComponentLink4URL: http://www.national.com/packaging/folders/v68a.html
footprint V68A_N (Leaded Chip Carrier, 68-Leads, Body 24x24mm, Pitch 1.27mm, IPC Medium Density)
footprint V68A_L (Leaded Chip Carrier, 68-Leads, Body 24x24mm, Pitch 1.27mm, IPC High Density)
footprint V68A_M (Leaded Chip Carrier, 68-Leads, Body 24x24mm, Pitch 1.27mm, IPC Low Density)
pins: 1 E6 (io), 2 E7 (io), 3 G0/INT (io), 4 G1/WDOUT (io), 5 G2/T1B (io), 6 G3/T1A (io), 7 F0 (io), 8 F1 (io), 9 F2 (io), 10 F3 (io), 11 G4/SO (io), 12 G5/SK (io), 13 G6/SI (in), 14 G7/CKO (in), 15 CKI (in), 16 DGND (power), 17 DVCC (power), 18 C0 (io), 19 C1 (io), 20 C2 (io), 21 C3 (io), 22 L0/MIWU/OSC IN (io), 23 L1/MIWU/CKX/OSC OUT (io), 24 L2/MIWU/TDX (io), 25 L3/MIWU/RDX (io), 26 L4/MIWU/T2A (io), 27 L5/MIWU/T2B (io), 28 L6/MIWU/T3A (io), 29 L7/MIWU/T3B (io), 30 C4 (io), 31 C5 (io), 32 C6 (io), 33 C7 (io), 34 B0 (io), 35 B1 (io), 36 B2 (io), 37 B3 (io), 38 B4 (io), 39 B5 (io), 40 B6 (io), 41 B7 (io), 42 DGND (power), 43 AGND (power), 44 AVCC (power), 45 DVCC (power), 46 A0 (io), 47 A1 (io), 48 A2 (io), 49 A3 (io), 50 A4 (io), 51 A5 (io), 52 A6 (io), 53 A7 (io), 54 E0 (io), 55 E1 (io), 56 E2 (io), 57 E3 (io), 58 D0 (out), 59 D1 (out), 60 D2 (out), 61 D3 (out), 62 D4 (out), 63 D5 (out), 64 D6 (out), 65 D7 (out), 66 ~{RESET} (in), 67 E4 (io), 68 E5 (io)

## COP8SCR9HVA8
designator U?
8-Bit CMOS Flash Based Microcontroller with 32k Memory, Virtual EEPROM and Brownout, 44-pin PLCC; PartNumber: COP8SCR9HVA8; Manufacturer: National Semiconductor; PackageTopMarking: NS2ZXYTTE#*COP8SCR9HVA8; PowerWise: N; CompType: Analog IC; High-Reliability: Y; DatasheetVersion: Aug-2003; PackageVersion: revK, Dec-1993; PackageReference: V44A; PackageDescription: Plastic Chip Carrier, Sq, .050in Pitch, 44 Lead; RoHS: N; PinCount: 44; Code_IPC: PLCC-44; ComponentLink1Description: Manufacturer URL; ComponentLink1URL: http://www.national.com/; ComponentLink2Description: COP8SCR9 Datasheet; ComponentLink2URL: http://www.national.com/ds/CO/COP8SCR9.pdf; ComponentLink3Description: COP8SCR9 Web Page; ComponentLink3URL: http://www.national.com/pf/CO/COP8SCR9.html; ComponentLink4Description: V44A Package Page; ComponentLink4URL: http://www.national.com/packaging/folders/v44a.html
footprint V44A_N (Leaded Chip Carrier, 44-Leads, Body 16.6x16.6mm, Pitch 1.27mm, IPC Medium Density)
footprint V44A_L (Leaded Chip Carrier, 44-Leads, Body 16.6x16.6mm, Pitch 1.27mm, IPC High Density)
footprint V44A_M (Leaded Chip Carrier, 44-Leads, Body 16.6x16.6mm, Pitch 1.27mm, IPC Low Density)
pins: 1 ~{RESET} (in), 2 G0/INT (io), 3 G1/WDOUT (io), 4 G2/T1B (io), 5 G3/T1A (io), 6 G4/SO (io), 7 G5/SK (io), 8 G6/SI (in), 9 G7/CKO (in), 10 CKI (in), 11 L0/MIWU/OSC IN (io), 12 L1/MIWU/CKX/OSC OUT (io), 13 L2/MIWU/TDX (io), 14 L3/MIWU/RDX (io), 15 L4/MIWU/T2A (io), 16 L5/MIWU/T2B (io), 17 L6/MIWU/T3A (io), 18 L7/MIWU/T3B (io), 19 B0 (io), 20 B1 (io), 21 B2 (io), 22 B3 (io), 23 B4 (io), 24 B5 (io), 25 B6 (io), 26 B7 (io), 27 DGND (power), 28 AGND (power), 29 AVCC (power), 30 DVCC (power), 31 A2 (io), 32 A3 (io), 33 A4 (io), 34 A5 (io), 35 A6 (io), 36 A7 (io), 37 D0 (out), 38 D1 (out), 39 D2 (out), 40 D3 (out), 41 D4 (out), 42 D5 (out), 43 D6 (out), 44 D7 (out)

## COP8SCR9LVA8
designator U?
8-Bit CMOS Flash Based Microcontroller with 32k Memory, Virtual EEPROM and Brownout, 68-pin PLCC; PartNumber: COP8SCR9LVA8; Manufacturer: National Semiconductor; PackageTopMarking: NS2ZXYTTE#*COP8SCR9LVA8; PowerWise: N; CompType: Analog IC; High-Reliability: Y; DatasheetVersion: Aug-2003; PackageVersion: revK, May-2007; PackageReference: V68A; PackageDescription: Plastic Chip Carrier, J-Bend, .954 x. 954 x .172in, .050in Pitch, 68 Lead; RoHS: N; PinCount: 68; Code_JEDEC: MS-018-AE; Code_IPC: PLCC-68; ComponentLink1Description: Manufacturer URL; ComponentLink1URL: http://www.national.com/; ComponentLink2Description: COP8SCR9 Datasheet; ComponentLink2URL: http://www.national.com/ds/CO/COP8SCR9.pdf; ComponentLink3Description: COP8SCR9 Web Page; ComponentLink3URL: http://www.national.com/pf/CO/COP8SCR9.html; ComponentLink4Description: V68A Package Page; ComponentLink4URL: http://www.national.com/packaging/folders/v68a.html
footprint V68A_N (Leaded Chip Carrier, 68-Leads, Body 24x24mm, Pitch 1.27mm, IPC Medium Density)
footprint V68A_L (Leaded Chip Carrier, 68-Leads, Body 24x24mm, Pitch 1.27mm, IPC High Density)
footprint V68A_M (Leaded Chip Carrier, 68-Leads, Body 24x24mm, Pitch 1.27mm, IPC Low Density)
pins: 1 E6 (io), 2 E7 (io), 3 G0/INT (io), 4 G1/WDOUT (io), 5 G2/T1B (io), 6 G3/T1A (io), 7 F0 (io), 8 F1 (io), 9 F2 (io), 10 F3 (io), 11 G4/SO (io), 12 G5/SK (io), 13 G6/SI (in), 14 G7/CKO (in), 15 CKI (in), 16 DGND (power), 17 DVCC (power), 18 C0 (io), 19 C1 (io), 20 C2 (io), 21 C3 (io), 22 L0/MIWU/OSC IN (io), 23 L1/MIWU/CKX/OSC OUT (io), 24 L2/MIWU/TDX (io), 25 L3/MIWU/RDX (io), 26 L4/MIWU/T2A (io), 27 L5/MIWU/T2B (io), 28 L6/MIWU/T3A (io), 29 L7/MIWU/T3B (io), 30 C4 (io), 31 C5 (io), 32 C6 (io), 33 C7 (io), 34 B0 (io), 35 B1 (io), 36 B2 (io), 37 B3 (io), 38 B4 (io), 39 B5 (io), 40 B6 (io), 41 B7 (io), 42 DGND (power), 43 AGND (power), 44 AVCC (power), 45 DVCC (power), 46 A0 (io), 47 A1 (io), 48 A2 (io), 49 A3 (io), 50 A4 (io), 51 A5 (io), 52 A6 (io), 53 A7 (io), 54 E0 (io), 55 E1 (io), 56 E2 (io), 57 E3 (io), 58 D0 (out), 59 D1 (out), 60 D2 (out), 61 D3 (out), 62 D4 (out), 63 D5 (out), 64 D6 (out), 65 D7 (out), 66 ~{RESET} (in), 67 E4 (io), 68 E5 (io)

## COP8SDR9HVA8
designator U?
8-Bit CMOS Flash Based Microcontroller with 32k Memory, Virtual EEPROM and Brownout, 44-pin PLCC; PartNumber: COP8SDR9HVA8; Manufacturer: National Semiconductor; PackageTopMarking: NS2ZXYTTE#*COP8SDR9HVA8; PowerWise: N; CompType: Analog IC; High-Reliability: Y; DatasheetVersion: Aug-2003; PackageVersion: revK, Dec-1993; PackageReference: V44A; PackageDescription: Plastic Chip Carrier, Sq, .050in Pitch, 44 Lead; RoHS: N; PinCount: 44; Code_IPC: PLCC-44; ComponentLink1Description: Manufacturer URL; ComponentLink1URL: http://www.national.com/; ComponentLink2Description: COP8SDR9 Datasheet; ComponentLink2URL: http://www.national.com/ds/CO/COP8SDR9.pdf; ComponentLink3Description: COP8SDR9 Web Page; ComponentLink3URL: http://www.national.com/pf/CO/COP8SDR9.html; ComponentLink4Description: V44A Package Page; ComponentLink4URL: http://www.national.com/packaging/folders/v44a.html
footprint V44A_N (Leaded Chip Carrier, 44-Leads, Body 16.6x16.6mm, Pitch 1.27mm, IPC Medium Density)
footprint V44A_L (Leaded Chip Carrier, 44-Leads, Body 16.6x16.6mm, Pitch 1.27mm, IPC High Density)
footprint V44A_M (Leaded Chip Carrier, 44-Leads, Body 16.6x16.6mm, Pitch 1.27mm, IPC Low Density)
pins: 1 ~{RESET} (in), 2 G0/INT (io), 3 G1/WDOUT (io), 4 G2/T1B (io), 5 G3/T1A (io), 6 G4/SO (io), 7 G5/SK (io), 8 G6/SI (in), 9 G7/CKO (in), 10 CKI (in), 11 L0/MIWU/OSC IN (io), 12 L1/MIWU/CKX/OSC OUT (io), 13 L2/MIWU/TDX (io), 14 L3/MIWU/RDX (io), 15 L4/MIWU/T2A (io), 16 L5/MIWU/T2B (io), 17 L6/MIWU/T3A (io), 18 L7/MIWU/T3B (io), 19 B0 (io), 20 B1 (io), 21 B2 (io), 22 B3 (io), 23 B4 (io), 24 B5 (io), 25 B6 (io), 26 B7 (io), 27 DGND (power), 28 AGND (power), 29 AVCC (power), 30 DVCC (power), 31 A2 (io), 32 A3 (io), 33 A4 (io), 34 A5 (io), 35 A6 (io), 36 A7 (io), 37 D0 (out), 38 D1 (out), 39 D2 (out), 40 D3 (out), 41 D4 (out), 42 D5 (out), 43 D6 (out), 44 D7 (out)

## COP8SGE5HLQ8YYY
designator U?
8-Bit CMOS ROM Based with 8k Memory, Two Comparators, and USART, 44 pin LLP; PartNumber: COP8SGE5HLQ8YYY; Manufacturer: National Semiconductor; PackageTopMarking: NS*UZXYTTE#*COP8SGE5; PowerWise: N; CompType: Analog IC; High-Reliability: Y; DatasheetVersion: Oct-2001; PackageVersion: revB, Oct-2001; PackageReference: LQA44A; PackageDescription: LLP, Plastic, Quad, 7 x 7 x 0.75mm Body, 44 Lead, 0.5mm Pitch; RoHS: N; PinCount: 44; ComponentLink1Description: Manufacturer URL; ComponentLink1URL: http://www.national.com/; ComponentLink2Description: COP8SGE5 Datasheet; ComponentLink2URL: http://www.national.com/ds/CO/COP8SGE5.pdf; ComponentLink3Description: COP8SGE5 Web Page; ComponentLink3URL: http://www.national.com/pf/CO/COP8SGE5.html; ComponentLink4Description: LQA44A Package Page; ComponentLink4URL: http://www.national.com/packaging/folders/lqa44a.html
footprint LQA44A (PQFN, 44-Leads, Body 7x7mm, Pitch 0.5mm, Thermal Pad 4.4x4.4mm, NSC Recommended)
pins: 1 G7/CKO (in), 2 CKI (in), 3 VCC (power), 4 F0 (io), 5 F1/COMP1IN- (io), 6 F2/COMP1IN+ (io), 7 F3/COMP1OUT (io), 8 F4/COMP2IN- (io), 9 F5/COMP2IN+ (io), 10 F6/COMP2OUT (io), 11 F7 (io), 12 L0/MIWU (io), 13 L1/MIWU/CKX (io), 14 L2/MIWU/TDX (io), 15 L3/MIWU/RDX (io), 16 C4 (io), 17 C5 (io), 18 C6 (io), 19 C7 (io), 20 L4/MIWU/T2A (io), 21 L5/MIWU/T2B (io), 22 L6/MIWU/T3A (io), 23 L7/MIWU/T3B (io), 24 D0 (out), 25 D1 (out), 26 D2 (out), 27 D3 (out), 28 D4 (out), 29 D5 (out), 30 D6 (out), 31 D7 (out), 32 GND (power), 33 ~{RESET} (in), 34 G0/INT (io), 35 G1/WDOUT (io), 36 G2/T1B (io), 37 G3/T1A (io), 38 C0 (io), 39 C1 (io), 40 C2 (io), 41 C3 (io), 42 G4/SO (io), 43 G5/SK (io), 44 G6/SI (in), 45 Thermal Pad (power)